# Altium schematic symbol library Inductors.SchLib: 1 symbol
Pins are listed as number, name and electrical type; pins without a type are passive.

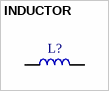
[diagram p0: symbol INDUCTOR]

## INDUCTOR
designator L?  (value not drawn)
footprint IND-CD54
footprint IND-0805
footprint IND-CD32
footprint IND-CD43
footprint IND-CD73
footprint IND-CD75
footprint IND-8x15 (Cu?n c?m cho Class D (Type1))
footprint IND-9x18 (Cu?n c?m cho Class D (Type1))
footprint IND-15x27 (Cu?n c?m cho Class D (Type1))
footprint IND-13x24 (Cu?n c?m cho Class D (Type1))
footprint IND-13x24-10 (Cu?n c?m cho Class D (Type1))
pins: 1, 2